# Altium schematic symbol library STM32H753AII6.SchLib: 2 symbols
Pins are listed as number, name and electrical type; pins without a type are passive.

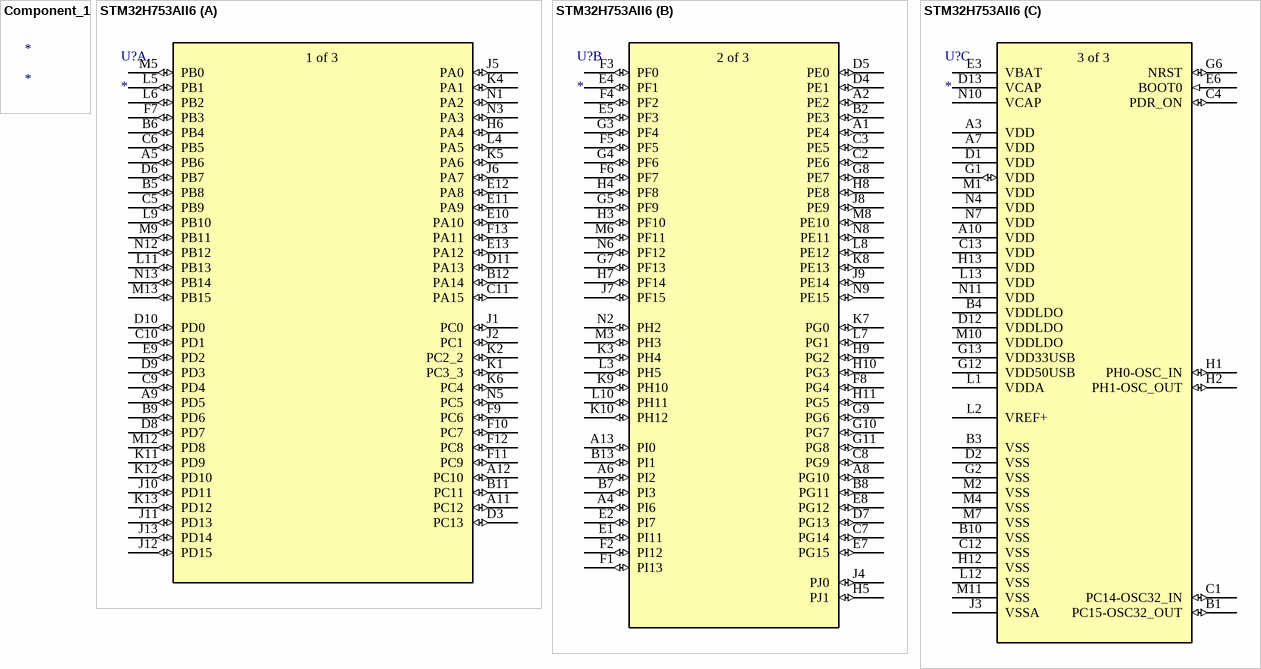
[diagram p0: symbols Component_1 to STM32H753AII6]

## Component_1
designator *

## STM32H753AII6
designator U?
No Description Available; Mfr_Name: STMicroelectronics; RefDes: RefDes; Type: Type
footprint UFBGA169
part A pins: A5 PB6 (io), A9 PD5 (io), A11 PC12 (io), A12 PC10 (io), B5 PB8 (io), B6 PB4 (io), B9 PD6 (io), B11 PC11 (io), B12 PA14 (io), C5 PB9 (io), C6 PB5 (io), C9 PD4 (io), C10 PD1 (io), C11 PA15 (io), D3 PC13 (io), D6 PB7 (io), D8 PD7 (io), D9 PD3 (io), D10 PD0 (io), D11 PA13 (io), E9 PD2 (io), E10 PA10 (io), E11 PA9 (io), E12 PA8 (io), E13 PA12 (io), F7 PB3 (io), F9 PC6 (io), F10 PC7 (io), F11 PC9 (io), F12 PC8 (io), F13 PA11 (io), H6 PA4 (io), J1 PC0 (io), J2 PC1 (io), J5 PA0 (io), J6 PA7 (io), J10 PD11 (io), J11 PD13 (io), J12 PD15 (io), J13 PD14 (io), K1 PC3_3 (io), K2 PC2_2 (io), K4 PA1 (io), K5 PA6 (io), K6 PC4 (io), K11 PD9 (io), K12 PD10 (io), K13 PD12 (io), L4 PA5 (io), L5 PB1 (io), L6 PB2 (io), L9 PB10 (io), L11 PB13 (io), M5 PB0 (io), M9 PB11 (io), M12 PD8 (io), M13 PB15 (io), N1 PA2 (io), N3 PA3 (io), N5 PC5 (io), N12 PB12 (io), N13 PB14 (io)
part B pins: A1 PE4 (io), A2 PE2 (io), A4 PI6 (io), A6 PI2 (io), A8 PG10 (io), A13 PI0 (io), B2 PE3 (io), B7 PI3 (io), B8 PG11 (io), B13 PI1 (io), C2 PE6 (io), C3 PE5 (io), C7 PG14 (io), C8 PG9 (io), D4 PE1 (io), D5 PE0 (io), D7 PG13 (io), E1 PI11 (io), E2 PI7 (io), E4 PF1 (io), E5 PF3 (io), E7 PG15 (io), E8 PG12 (io), F1 PI13 (io), F2 PI12 (io), F3 PF0 (io), F4 PF2 (io), F5 PF5 (io), F6 PF7 (io), F8 PG4 (io), G3 PF4 (io), G4 PF6 (io), G5 PF9 (io), G7 PF13 (io), G8 PE7 (io), G9 PG6 (io), G10 PG7 (io), G11 PG8 (io), H3 PF10 (io), H4 PF8 (io), H5 PJ1 (io), H7 PF14 (io), H8 PE8 (io), H9 PG2 (io), H10 PG3 (io), H11 PG5 (io), J4 PJ0 (io), J7 PF15 (io), J8 PE9 (io), J9 PE14 (io), K3 PH4 (io), K7 PG0 (io), K8 PE13 (io), K9 PH10 (io), K10 PH12 (io), L3 PH5 (io), L7 PG1 (io), L8 PE12 (io), L10 PH11 (io), M3 PH3 (io), M6 PF11 (io), M8 PE10 (io), N2 PH2 (io), N6 PF12 (io), N8 PE11 (io), N9 PE15 (io)
part C pins: A3 VDD (power), A7 VDD (power), A10 VDD (power), B1 PC15-OSC32_OUT (io), B3 VSS (power), B4 VDDLDO (power), B10 VSS (power), C1 PC14-OSC32_IN (io), C4 PDR_ON (io), C12 VSS (power), C13 VDD (power), D1 VDD (power), D2 VSS (power), D12 VDDLDO (power), D13 VCAP (power), E3 VBAT (power), E6 BOOT0 (in), G1 VDD (io), G2 VSS (power), G6 NRST (io), G12 VDD50USB (power), G13 VDD33USB (power), H1 PH0-OSC_IN (io), H2 PH1-OSC_OUT (io), H12 VSS (power), H13 VDD (power), J3 VSSA (power), L1 VDDA (power), L2 VREF+ (power), L12 VSS (power), L13 VDD (power), M1 VDD (power), M2 VSS (power), M4 VSS (power), M7 VSS (power), M10 VDDLDO (power), M11 VSS (power), N4 VDD (power), N7 VDD (power), N10 VCAP (power), N11 VDD (power)
part A text: 1 of 3
part B text: 2 of 3
part C text: 3 of 3